# EAGLE library part RM05-8A (library ardustat)
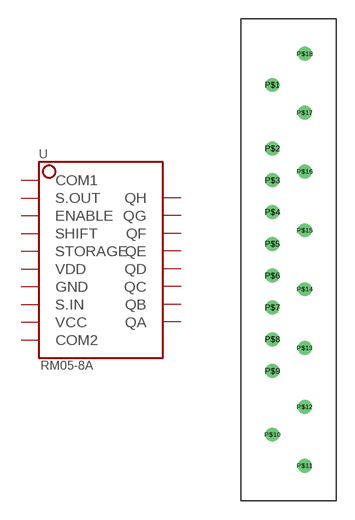
[diagram p16: symbol with the pads of RM05-8A; footprint RM05-8A]

Designator prefix -

## RM05-8A  [RM05-8A]
P$1  COM1
P$2  S.OUT
P$3  ENABLE
P$4  SHIFT
P$5  STORAGE
P$6  VDD
P$7  GND
P$8  S.IN
P$9  VCC
P$10  COM2
P$11  QA
P$12  QB
P$13  QC
P$14  QD
P$15  QE
P$16  QF
P$17  QG
P$18  QH

## Footprint RM05-8A (pad centres in mm)
drill 0.6: P$1 -1.29,13.97; P$2 -1.29,8.89; P$3 -1.29,6.35; P$4 -1.29,3.81; P$5 -1.29,1.27; P$6 -1.29,-1.27; P$7 -1.29,-3.81; P$8 -1.29,-6.35; P$9 -1.29,-8.89; P$10 -1.29,-13.97; P$11 1.29,-16.45; P$12 1.29,-11.75; P$13 1.29,-7.05; P$14 1.29,-2.35; P$15 1.29,2.35; P$16 1.29,7.05; P$17 1.29,11.75; P$18 1.29,16.45